# Altium integrated library MPU6050.IntLib: 1 symbol
Pins are listed as number, name and electrical type; pins without a type are passive.

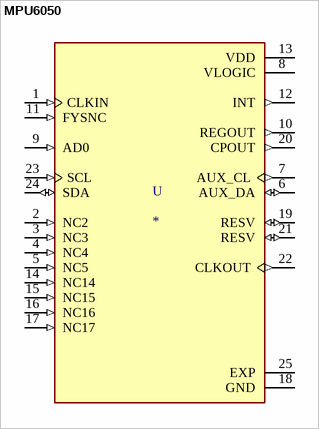
[diagram p0: symbol MPU6050]

## MPU6050
designator U
Accelerometer, Gyroscope, 6 Axis Sensor IÂ²C Output; MP: MPU6050; MF: TDK InvenSense; Price: None; Package: VFQFN-24 TDK InvenSense; Value: *; Availability: Unavailable; SnapEDA_Link: https://www.snapeda.com/parts/MPU6050/TDK%20InvenSense/view-part/3605706/?ref=snap
footprint IC_MPU6050
pins: 1 CLKIN (in), 2 NC2 (in), 3 NC3 (in), 4 NC4 (in), 5 NC5 (in), 6 AUX_DA (io), 7 AUX_CL (out), 8 VLOGIC (power), 9 AD0 (in), 10 REGOUT (out), 11 FYSNC (in), 12 INT (out), 13 VDD (power), 14 NC14 (in), 15 NC15 (in), 16 NC16 (in), 17 NC17 (in), 18 GND (power), 19 RESV (io), 20 CPOUT (out), 21 RESV (io), 22 CLKOUT (out), 23 SCL (in), 24 SDA (io), 25 EXP (power)